# Altium footprint library pcb_peb_1.PcbLib: 34 footprints (part 1 of 3)
Each footprint in its own frame and in the unit in brackets; x right, y up, seen from the top. Pads: shape width x height; smd on the part's side, far side on the other; paste and mask are expansions set on the pad; w line width, h text height; cw(c..) or ccw(c..) is an arc to the next point about the centre after c.
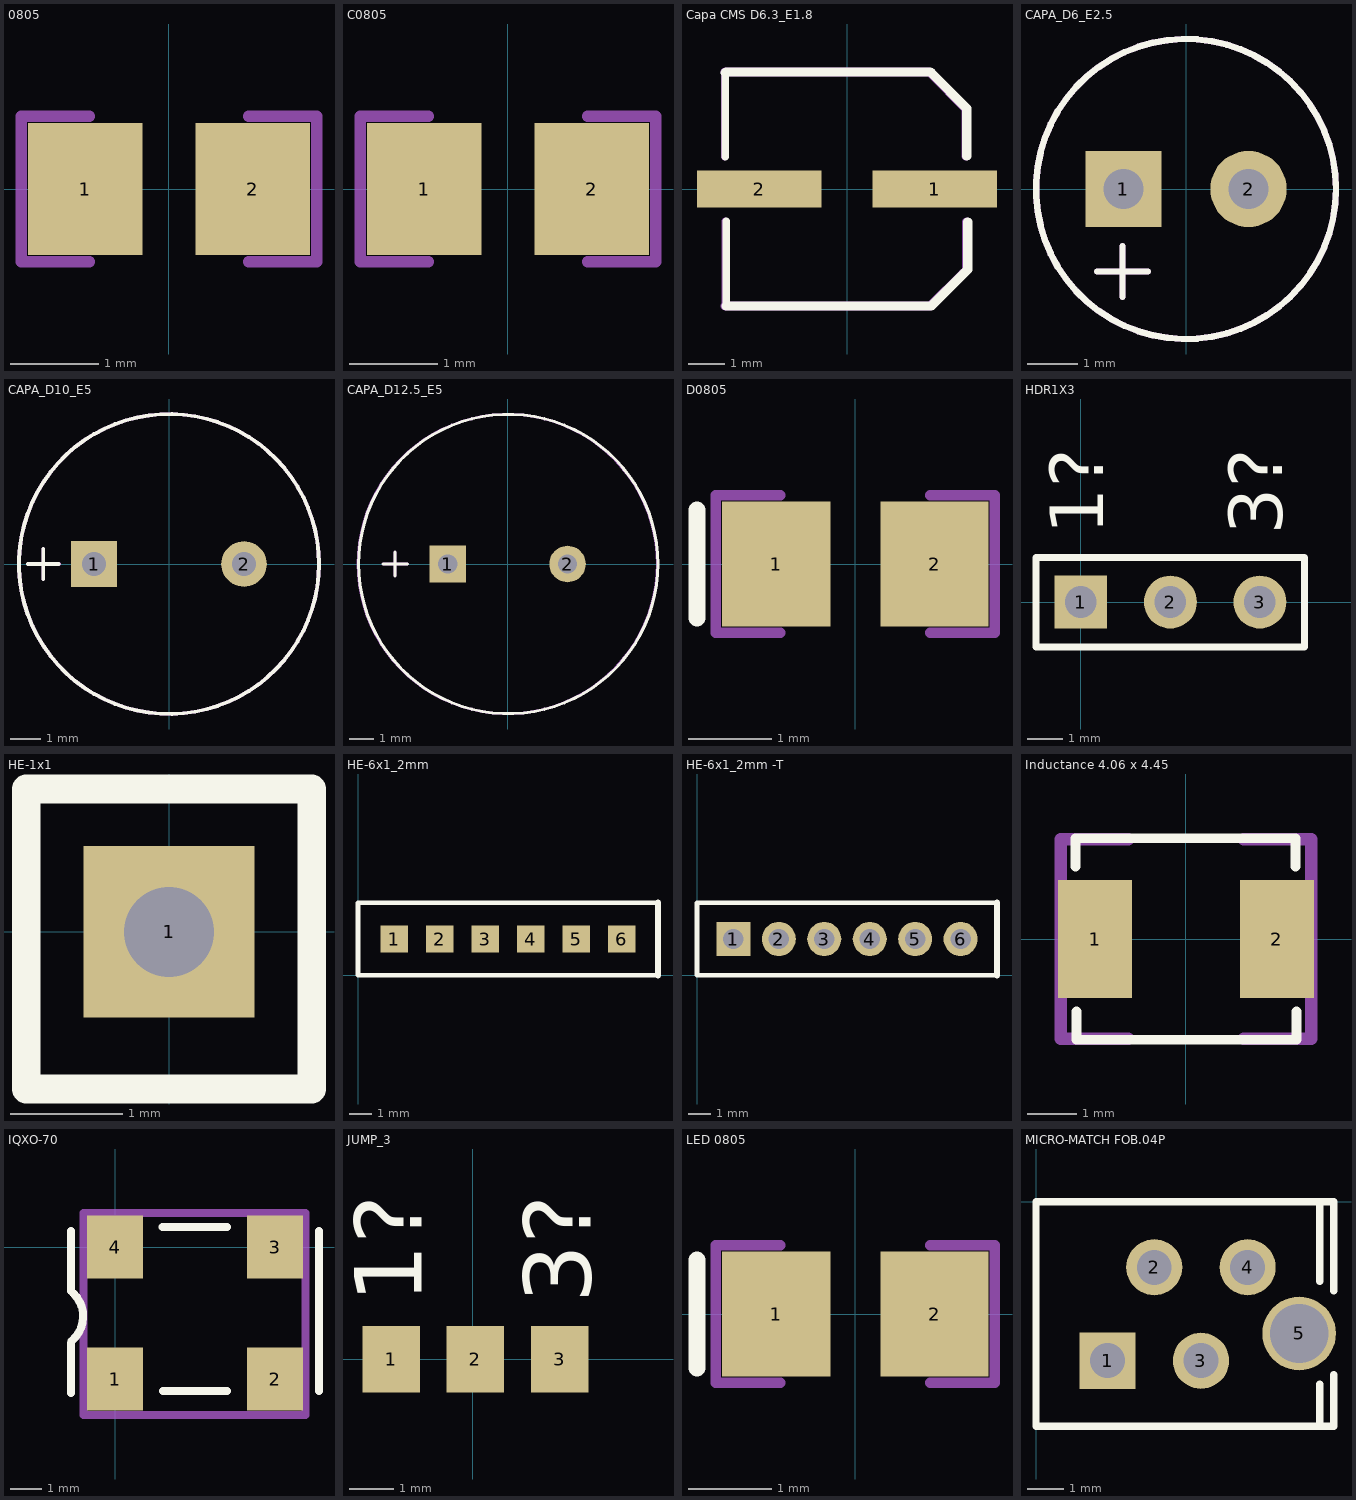
[diagram p0: the footprints below, top view; thin cyan lines are the x and y axes]

## 0805 [mm] "Chip Resistor; Body 2.0 x 1.3 mm (LxW typ)"
height 2.54
pads (2):
  rect 1.3x1.5 smd: 1(-0.95,0) 2(0.95,0)
Mechanical 27:
  text ".Comment" at -1.45,-0.5 h1
Mechanical 29:
  text ".Designator" at -1.425,-0.5 h1
Mechanical 31:
  lines w0.127: -0.9,-0.825 -1.675,-0.825 -1.675,-0.275 -1.675,0.825 -0.9,0.825 ; 0.9,-0.825 1.675,-0.825 1.675,0.825 0.9,0.825
3D body: height 0.78, standoff 0, extent -1,-0.625 1,0.625

## C0805 [mm] "Chip Resistor; Body 2.0 x 1.3 mm (LxW typ)"
height 2.54
pads (2):
  rect 1.3x1.5 smd: 1(-0.95,0) 2(0.95,0)
Mechanical 27:
  text ".Comment" at -1.45,-0.5 h1
Mechanical 29:
  text ".Designator" at -1.45,-0.5 h1
Mechanical 31:
  lines w0.127: -0.9,-0.825 -1.675,-0.825 -1.675,0.825 -0.9,0.825 ; 0.9,-0.825 1.675,-0.825 1.675,0.825 0.9,0.825
3D body: height 0.78, standoff 0, extent -0.975,-0.625 1.025,0.625

## Capa CMS D6.3_E1.8 [mm]
pads (2):
  rect 3.4x1 smd: 1(2.4,0) 2(-2.4,0)
Top Overlay:
  lines w0.2: -3.325,0.875 -3.325,3.175 ; -3.3,-3.2 -3.3,-0.875
  lines w0.254: -3.325,3.175 -3.3,3.2 2.275,3.2 ; -3.3,-3.2 2.3,-3.2 3.2,-2.3 ; 2.3,3.175 3.275,2.2 3.275,0.9 ; 2.325,-3.175 3.3,-2.2 3.3,-0.9
Mechanical 27:
  text ".Comment" at -1.45,-0.5 h1
Mechanical 29:
  text ".Designator" at -1.45,-0.5 h1
Mechanical 31:
  lines w0.2: -3.35,0.875 -3.35,3.175 ; -3.325,-3.2 -3.325,-0.875
  lines w0.254: -3.325,-3.2 2.275,-3.2 3.175,-2.3 ; -3.325,3.2 2.25,3.2 ; 2.275,3.175 3.25,2.2 3.25,0.9 ; 3.275,-2.2 3.275,-0.9
3D body: height 8, standoff 0, extent -3.775,-3.3 3.825,3.3

## CAPA_D6_E2.5 [mm]
pads (2):
  rect 1.524x1.524 hole 0.8: 1(-1.25,0)
  round 1.524 hole 0.8: 2(1.25,0)
Top Overlay:
  circle w0.127: c0,0 r3
  lines w0.127: -1.778,-1.651 -0.762,-1.651 ; -1.27,-2.159 -1.27,-1.143
Mechanical 27:
  text ".Comment" at -1.525,1.3 h1
Mechanical 29:
  text ".Designator" at -1.525,1.3 h1
Mechanical 31:
  circle w0.127: c0,0 r3
  lines w0.127: -1.778,-1.651 -0.762,-1.651 ; -1.27,-2.159 -1.27,-1.143

## CAPA_D10_E5 [mm]
pads (2):
  rect 1.524x1.524 hole 0.8: 1(-2.5,0)
  round 1.524 hole 0.8: 2(2.5,0)
Top Overlay:
  circle w0.127: c0,0 r5
  lines w0.127: -4.699,0 -3.683,0 ; -4.191,-0.508 -4.191,0.508
Mechanical 27:
  text ".Comment" at -2.2,-2.7 h1
Mechanical 29:
  text ".Designator" at -2.2,-2.7 h1
Mechanical 31:
  circle w0.127: c0,0 r5
  lines w0.127: -4.674,0 -3.658,0 ; -4.191,-0.508 -4.191,0.508
3D body: height 12, standoff -2.5, extent -5,-5 5,5

## CAPA_D12.5_E5 [mm]
pads (2):
  rect 1.524x1.524 hole 0.8: 1(-2.5,0)
  round 1.524 hole 0.8: 2(2.5,0)
Top Overlay:
  circle w0.127: c0.025,0 r6.25
  lines w0.127: -5.207,0 -4.191,0 ; -4.699,-0.508 -4.699,0.508
Mechanical 27:
  text ".Comment" at -1.5,-2.675 h1
Mechanical 29:
  text ".Designator" at -1.5,-2.675 h1
Mechanical 31:
  circle w0.127: c0,0 r6.25
  lines w0.127: -5.207,0 -4.191,0 ; -4.699,-0.508 -4.699,0.508

## D0805 [mm] "Chip Capacitor; Body 2.0 x 1.2 mm (LxW typ)"
height 1.1
pads (2):
  rect 1.3x1.5 smd: 1(-0.95,0) 2(0.95,0)
Top Overlay:
  lines w0.2: -1.9,-0.65 -1.9,0.65
Mechanical 27:
  text ".Comment" at -1.45,-0.5 h1
Mechanical 29:
  text ".Designator" at -1.45,-0.5 h1
Mechanical 31:
  lines w0.127: -0.9,-0.825 -1.675,-0.825 -1.675,0.825 -0.9,0.825 ; 0.9,-0.825 1.675,-0.825 1.675,0.825 0.9,0.825
3D body: height 0.76, standoff 0, extent -1.175,-0.675 1.125,0.675

## HDR1X3 [mm] "Connector; Header; 3 Position"
pads (3):
  rect 1.5x1.5 hole 0.9: 1(0,0)
  round 1.5 hole 0.9: 2(2.54,0) 3(5.08,0)
Top Overlay:
  lines w0.2: -1.27,-1.27 6.35,-1.27 6.35,1.27 -1.27,1.27 -1.27,-1.27
  text "3?" at 5.715,1.905 h1.52
  text "1?" at 0.635,1.905 h1.52

## HE-1x1 [mil] "Chip Resistor; Body 2.0 x 1.3 mm (LxW typ)"
height 100
pads (1):
  rect 60x60 hole 31.5: 1(0,0)
Top Overlay:
  lines w10: -50,-55 -50,50 50,50 50,-55 -50,-55

## HE-6x1_2mm [mm]
pads (6):
  rect 1.2x1.2 smd: 1(1.6,1.6) 2(3.6,1.6) 3(5.6,1.6) 4(7.6,1.6) 5(9.6,1.6) 6(11.6,1.6)
Top Overlay:
  lines w0.2: 13.2,0 0,0 0,3.2 13.2,3.2
  lines w0.254: 13.2,0 13.2,3.2

## HE-6x1_2mm -T [mm]
pads (6):
  rect 1.5x1.5 hole 0.9: 1(1.6,1.6)
  round 1.5 hole 0.9: 2(3.6,1.6) 3(5.6,1.6) 4(7.6,1.6) 5(9.6,1.6) 6(11.6,1.6)
Top Overlay:
  lines w0.2: 13.2,0 0,0 0,3.2 13.2,3.2
  lines w0.254: 13.2,0 13.2,3.2

## Inductance 4.06 x 4.45 [mm]
pads (2):
  rect 1.5x2.4 smd: 1(-1.85,0) 2(1.85,0)
Top Overlay:
  lines w0.2: -2.25,1.475 -2.25,2.05 2.225,2.05 2.225,1.475 ; -2.225,-1.475 -2.225,-2.05 2.25,-2.05 2.25,-1.475
Mechanical 27:
  text ".Comment" at -1.55,-0.5 h1
Mechanical 29:
  text ".Designator" at -1.575,-0.5 h1
Mechanical 31:
  lines w0.254: -1.175,-2.025 -2.55,-2.025 -2.55,2.025 -1.175,2.025 ; 1.175,-2.025 2.55,-2.025 2.55,2.025 1.175,2.025

## IQXO-70 [mil]
pads (4):
  rect 70x79 smd: 1(0,-165) 2(200,-165) 3(200,0) 4(0,0)
Top Overlay:
  lines w10: -55,-182.5 -55,-120 ; -55,-55 -55,20 ; -54.28,-117.28 ccw(c-79.96,-86.46) -52.3,-57.41 ; 59.06,25 140,25 ; 60,-180 140,-180 ; 255,-180 255,20
Mechanical 27:
  text ".Comment" at -9.84,-105.31 h39.37
Mechanical 29:
  text ".Designator" at -9.84,-105.31 h39.37
Mechanical 31:
  lines w10: -39.37,-209.65 238.19,-209.65 238.19,42.32 -39.37,42.32 -39.37,-209.65
3D body: height 48.03, standoff 0, extent -17.71,-153.53 226.38,-7.86

## JUMP_3 [mm] "Chip Resistor; Body 2.0 x 1.3 mm (LxW typ)"
height 2.54
pads (3):
  rect 1.3x1.5 smd: 1(-1.839,0) 2(0.061,0) 3(1.966,0)
Top Overlay:
  text "1?" at -1.143,1.27 h1.52
  text "3?" at 2.667,1.27 h1.52

## LED 0805 [mm] "Chip Capacitor; Body 2.0 x 1.2 mm (LxW typ)"
height 1.1
pads (2):
  rect 1.3x1.5 smd: 1(-0.95,0) 2(0.95,0)
Top Overlay:
  lines w0.2: -1.9,-0.65 -1.9,0.65
Mechanical 27:
  text ".Comment" at -1.45,-0.5 h1
Mechanical 29:
  text ".Designator" at -1.45,-0.5 h1
Mechanical 31:
  lines w0.127: -0.9,-0.825 -1.675,-0.825 -1.675,0.825 -0.9,0.825 ; 0.9,-0.825 1.675,-0.825 1.675,0.825 0.9,0.825
3D body: height 1.1, standoff 0, extent -1.01,-0.625 1.01,0.625

## MICRO-MATCH FOB.04P [mm]
pads (5):
  rect 1.524x1.524 hole 0.95: 1(1.945,-4.32)
  round 1.524 hole 0.95: 2(3.215,-1.78) 3(4.485,-4.32) 4(5.755,-1.78)
  round 2 hole 1.6: 5(7.155,-3.58)
Top Overlay:
  lines w0.203: 7.719,-6.096 7.719,-4.953 ; 7.719,-2.159 7.719,0 ; 8.1,-6.1 0,-6.1 0,0 8.1,0 8.1,-2.413 ; 8.1,-6.096 8.1,-4.699